# Altium footprint library Header PCB Library.PcbLib: 3 footprints
Each footprint in its own frame and in the unit in brackets; x right, y up, seen from the top. Pads: shape width x height; smd on the part's side, far side on the other; paste and mask are expansions set on the pad; w line width, h text height; cw(c..) or ccw(c..) is an arc to the next point about the centre after c.
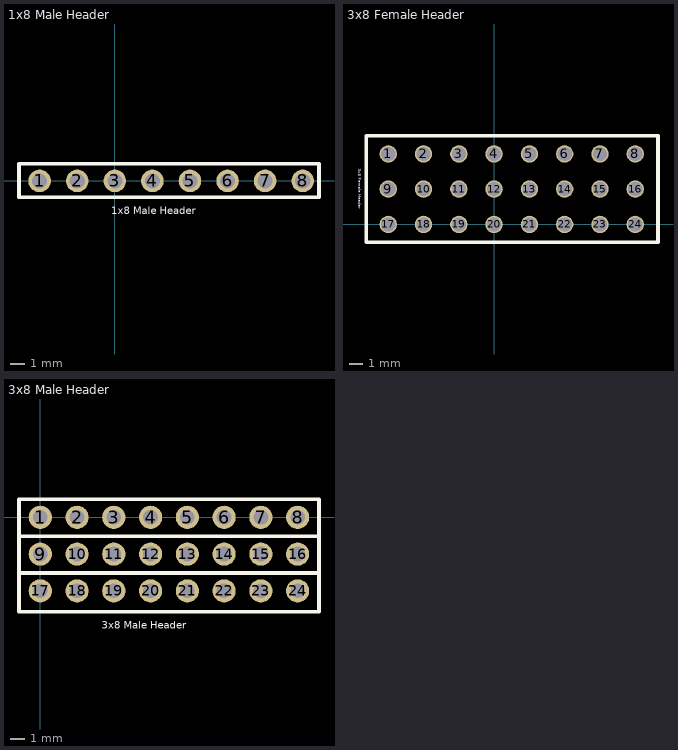
[diagram p0: the footprints below, top view; thin cyan lines are the x and y axes]

## 1x8 Male Header [mil]
pads (8):
  round 60 hole 40.16: 1(-200,0) 2(-100,0) 3(0,0) 4(100,0) 5(200,0) 6(300,0) 7(400,0) 8(500,0)
Top Overlay:
  lines w10: -254.92,-43.31 92.52,-43.31 543.31,-43.31 543.31,45.28 -254.92,45.28 -254.92,-43.31
  text "1x8 Male Header" at -9.84,-88.58 h19.68
3D body "8 pin header male.SLDPRT": height 335.15, standoff -117.61, extent -254.92,-49.21 549.21,49.21

## 3x8 Female Header [mm]
pads (24):
  round 1.25 hole 1.02: 1(-7.62,5.08) 2(-5.08,5.08) 3(-2.54,5.08) 4(0,5.08) 5(2.54,5.08) 6(5.08,5.08) 7(7.62,5.08) 8(10.16,5.08) 9(-7.62,2.54) 10(-5.08,2.54) 11(-2.54,2.54) 12(0,2.54) 13(2.54,2.54) 14(5.08,2.54) 15(7.62,2.54) 16(10.16,2.54) 17(-7.62,0) 18(-5.08,0) 19(-2.54,0) 20(0,0) 21(2.54,0) 22(5.08,0) 23(7.62,0) 24(10.16,0)
Top Overlay:
  lines w0.254: -9.2,-1.3 10.3,-1.3 11.8,-1.3 11.8,5.3 11.8,6.4 -0.8,6.4 -9.2,6.4 -9.2,-1.3
  text "3x8 Female Header" at -9.8,4 h0.2
3D body "3x8 Femal Header.SLDPRT": height 8.51, standoff -2.99, extent -9.2,-1.1 11.52,6.4

## 3x8 Male Header [mm]
pads (24):
  round 1.6 hole 1.02: 1(0,0) 2(2.54,0) 3(5.08,0) 4(7.62,0) 5(10.16,0) 6(12.7,0) 7(15.24,0) 8(17.78,0) 9(0,-2.54) 10(2.54,-2.54) 11(5.08,-2.54) 12(7.62,-2.54) 13(10.16,-2.54) 14(12.7,-2.54) 15(15.24,-2.54) 16(17.78,-2.54) 17(0,-5.08) 18(2.54,-5.08) 19(5.08,-5.08) 20(7.62,-5.08) 21(10.16,-5.08) 22(12.7,-5.08) 23(15.24,-5.08) 24(17.78,-5.08)
Top Overlay:
  lines w0.254: -1.45,-3.85 19.25,-3.85 ; -1.4,-1.3 19.2,-1.3 ; -1.469,-6.526 -1.469,1.25 0,1.25 19.254,1.25 19.254,-6.526 -1.469,-6.526
  text "3x8 Male Header" at 4.25,-7.7 h0.5
3D body "8 pin header male.SLDPRT": height 8.51, standoff -2.99, extent -1.309,-1.272 19.116,1.228
3D body "8 pin header male.SLDPRT": height 8.51, standoff -2.99, extent -1.338,-6.375 19.088,-3.875
3D body "8 pin header male.SLDPRT": height 8.51, standoff -2.99, extent -1.309,-3.822 19.116,-1.321